# Altium footprint library Pcb_L136_0510.PcbLib: 8 footprints
Each footprint in its own frame and in the unit in brackets; x right, y up, seen from the top. Pads: shape width x height; smd on the part's side, far side on the other; paste and mask are expansions set on the pad; w line width, h text height; cw(c..) or ccw(c..) is an arc to the next point about the centre after c.
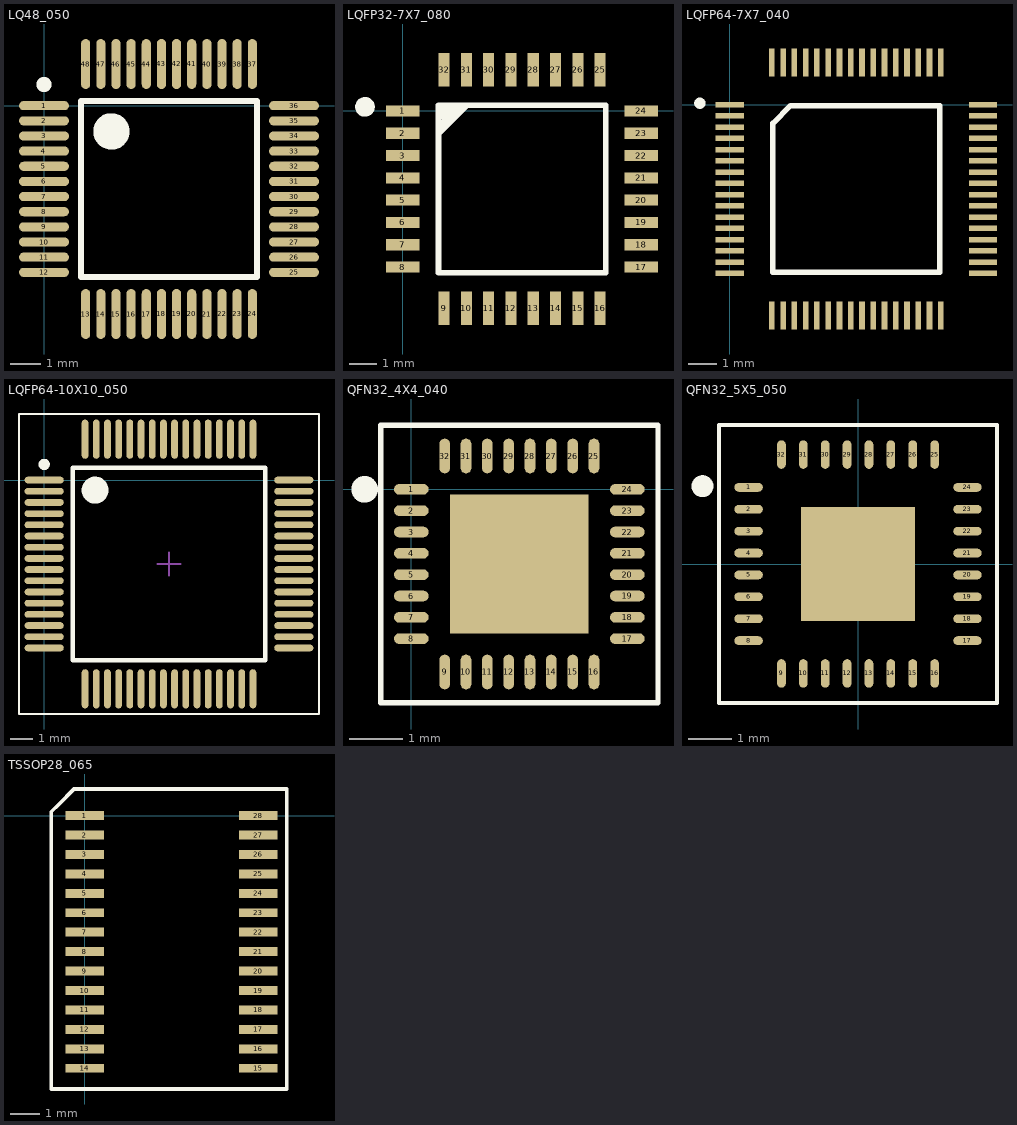
[diagram p0: the footprints below, top view; thin cyan lines are the x and y axes]

## LQ48_050 [mm]
pads (48):
  oval 1.65x0.3 smd: 1(0,0) 2(0,-0.5) 3(0,-1) 4(0,-1.5) 5(0,-2) 6(0,-2.5) 7(0,-3) 8(0,-3.5) 9(0,-4) 10(0,-4.5) 11(0,-5) 12(0,-5.5) 25(8.25,-5.5) 26(8.25,-5) 27(8.25,-4.5) 28(8.25,-4) 29(8.25,-3.5) 30(8.25,-3) 31(8.25,-2.5) 32(8.25,-2) 33(8.25,-1.5) 34(8.25,-1) 35(8.25,-0.5) 36(8.25,0)
  oval 0.3x1.65 smd: 13(1.375,-6.875) 14(1.875,-6.875) 15(2.375,-6.875) 16(2.875,-6.875) 17(3.375,-6.875) 18(3.875,-6.875) 19(4.375,-6.875) 20(4.875,-6.875) 21(5.375,-6.875) 22(5.875,-6.875) 23(6.375,-6.875) 24(6.875,-6.875) 37(6.875,1.375) 38(6.375,1.375) 39(5.875,1.375) 40(5.375,1.375) 41(4.875,1.375) 42(4.375,1.375) 43(3.875,1.375) 44(3.375,1.375) 45(2.875,1.375) 46(2.375,1.375) 47(1.875,1.375) 48(1.375,1.375)
Top Overlay:
  circle w0.25: c0,0.7 r0.125
  circle w0.6: c2.225,-0.85 r0.3
  lines w0.2: 1.225,-5.65 1.225,0.15 7.025,0.15 7.025,-5.65 1.225,-5.65

## LQFP32-7X7_080 [mm]
pads (32):
  rect 1.2x0.4 smd: 1(0,0) 2(0,-0.8) 3(0,-1.6) 4(0,-2.4) 5(0,-3.2) 6(0,-4) 7(0,-4.8) 8(0,-5.6) 17(8.55,-5.6) 18(8.55,-4.8) 19(8.55,-4) 20(8.55,-3.2) 21(8.55,-2.4) 22(8.55,-1.6) 23(8.55,-0.8) 24(8.55,0)
  rect 0.4x1.2 smd: 9(1.475,-7.075) 10(2.275,-7.075) 11(3.075,-7.075) 12(3.875,-7.075) 13(4.675,-7.075) 14(5.475,-7.075) 15(6.275,-7.075) 16(7.075,-7.075) 25(7.075,1.475) 26(6.275,1.475) 27(5.475,1.475) 28(4.675,1.475) 29(3.875,1.475) 30(3.075,1.475) 31(2.275,1.475) 32(1.475,1.475)
Top Overlay:
  circle w0.25: c-1.438,0.121 r0.125
  circle w0.2: c-1.361,0.146 r0.251
  lines w0.2: 1.275,-0.819 2.294,0.2 ; 1.275,-0.539 2.091,0.2 ; 1.275,-0.26 1.837,0.2 ; 1.275,-0.031 1.583,0.2 ; 1.275,-5.8 1.275,0.2 ; 1.275,-5.8 1.275,0.2 ; 1.275,-5.8 7.275,-5.8 7.275,0.2 1.275,0.2

## LQFP64-7X7_040 [mm]
pads (64):
  rect 1x0.2 smd: 1(0,0) 2(0,-0.4) 3(0,-0.8) 4(0,-1.2) 5(0,-1.6) 6(0,-2) 7(0,-2.4) 8(0,-2.8) 9(0,-3.2) 10(0,-3.6) 11(0,-4) 12(0,-4.4) 13(0,-4.8) 14(0,-5.2) 15(0,-5.6) 16(0,-6) 33(9,-6) 34(9,-5.6) 35(9,-5.2) 36(9,-4.8) 37(9,-4.4) 38(9,-4) 39(9,-3.6) 40(9,-3.2) 41(9,-2.8) 42(9,-2.4) 43(9,-2) 44(9,-1.6) 45(9,-1.2) 46(9,-0.8) 47(9,-0.4) 48(9,0)
  rect 0.2x1 smd: 17(1.5,-7.5) 18(1.9,-7.5) 19(2.3,-7.5) 20(2.7,-7.5) 21(3.1,-7.5) 22(3.5,-7.5) 23(3.9,-7.5) 24(4.3,-7.5) 25(4.7,-7.5) 26(5.1,-7.5) 27(5.5,-7.5) 28(5.9,-7.5) 29(6.3,-7.5) 30(6.7,-7.5) 31(7.1,-7.5) 32(7.5,-7.5) 49(7.5,1.5) 50(7.1,1.5) 51(6.7,1.5) 52(6.3,1.5) 53(5.9,1.5) 54(5.5,1.5) 55(5.1,1.5) 56(4.7,1.5) 57(4.3,1.5) 58(3.9,1.5) 59(3.5,1.5) 60(3.1,1.5) 61(2.7,1.5) 62(2.3,1.5) 63(1.9,1.5) 64(1.5,1.5)
Top Overlay:
  circle w0.2: c-1.063,0.048 r0.1
  lines w0.2: 1.535,-5.965 7.465,-5.965 7.465,-0.035 2.167,-0.035 1.535,-0.667 1.535,-5.965

## LQFP64-10X10_050 [mm]
pads (64):
  oval 1.75x0.3 smd: 1(0,0) 2(0,-0.5) 3(0,-1) 4(0,-1.5) 5(0,-2) 6(0,-2.5) 7(0,-3) 8(0,-3.5) 9(0,-4) 10(0,-4.5) 11(0,-5) 12(0,-5.5) 13(0,-6) 14(0,-6.5) 15(0,-7) 16(0,-7.5) 33(11.15,-7.5) 34(11.15,-7) 35(11.15,-6.5) 36(11.15,-6) 37(11.15,-5.5) 38(11.15,-5) 39(11.15,-4.5) 40(11.15,-4) 41(11.15,-3.5) 42(11.15,-3) 43(11.15,-2.5) 44(11.15,-2) 45(11.15,-1.5) 46(11.15,-1) 47(11.15,-0.5) 48(11.15,0)
  oval 0.3x1.75 smd: 17(1.825,-9.325) 18(2.325,-9.325) 19(2.825,-9.325) 20(3.325,-9.325) 21(3.825,-9.325) 22(4.325,-9.325) 23(4.825,-9.325) 24(5.325,-9.325) 25(5.825,-9.325) 26(6.325,-9.325) 27(6.825,-9.325) 28(7.325,-9.325) 29(7.825,-9.325) 30(8.325,-9.325) 31(8.825,-9.325) 32(9.325,-9.325) 49(9.325,1.825) 50(8.825,1.825) 51(8.325,1.825) 52(7.825,1.825) 53(7.325,1.825) 54(6.825,1.825) 55(6.325,1.825) 56(5.825,1.825) 57(5.325,1.825) 58(4.825,1.825) 59(4.325,1.825) 60(3.825,1.825) 61(3.325,1.825) 62(2.825,1.825) 63(2.325,1.825) 64(1.825,1.825)
Top Overlay:
  circle w0.6: c2.275,-0.45 r0.3
  circle w0.25: c0,0.7 r0.125
  lines w0.1: -1.125,-10.45 12.275,-10.45 12.275,2.95 -1.125,2.95 -1.125,-10.45
  lines w0.2: 1.275,-8.05 9.875,-8.05 9.875,0.55 1.275,0.55 1.275,-8.05
Mechanical 15:
  lines w0.1: 5.075,-3.75 6.075,-3.75 ; 5.575,-4.25 5.575,-3.25

## PCBComponent_1 [mm]

## QFN32_4X4_040 [mm]
pads (33):
  oval 0.65x0.2 smd: 1(0,0) 2(0,-0.4) 3(0,-0.8) 4(0,-1.2) 5(0,-1.6) 6(0,-2) 7(0,-2.4) 8(0,-2.8) 17(4.05,-2.8) 18(4.05,-2.4) 19(4.05,-2) 20(4.05,-1.6) 21(4.05,-1.2) 22(4.05,-0.8) 23(4.05,-0.4) 24(4.05,0)
  oval 0.2x0.65 smd: 9(0.625,-3.425) 10(1.025,-3.425) 11(1.425,-3.425) 12(1.825,-3.425) 13(2.225,-3.425) 14(2.625,-3.425) 15(3.025,-3.425) 16(3.425,-3.425) 25(3.425,0.625) 26(3.025,0.625) 27(2.625,0.625) 28(2.225,0.625) 29(1.825,0.625) 30(1.425,0.625) 31(1.025,0.625) 32(0.625,0.625)
  rect 2.6x2.6 smd: ""(2.025,-1.4)
Top Overlay:
  circle w0.25: c-0.875,0 r0.125
  lines w0.1: -0.575,-4 -0.575,1.2 4.625,1.2 4.625,-4 -0.575,-4

## QFN32_5X5_050 [mm]
pads (33):
  oval 0.65x0.2 smd: 1(-2.5,1.75) 2(-2.5,1.25) 3(-2.5,0.75) 4(-2.5,0.25) 5(-2.5,-0.25) 6(-2.5,-0.75) 7(-2.5,-1.25) 8(-2.5,-1.75) 17(2.5,-1.75) 18(2.5,-1.25) 19(2.5,-0.75) 20(2.5,-0.25) 21(2.5,0.25) 22(2.5,0.75) 23(2.5,1.25) 24(2.5,1.75)
  oval 0.2x0.65 smd: 9(-1.75,-2.5) 10(-1.25,-2.5) 11(-0.75,-2.5) 12(-0.25,-2.5) 13(0.25,-2.5) 14(0.75,-2.5) 15(1.25,-2.5) 16(1.75,-2.5) 25(1.75,2.5) 26(1.25,2.5) 27(0.75,2.5) 28(0.25,2.5) 29(-0.25,2.5) 30(-0.75,2.5) 31(-1.25,2.5) 32(-1.75,2.5)
  rect 2.6x2.6 smd: ""(0,0)
Top Overlay:
  circle w0.25: c-3.554,1.778 r0.125
  lines w0.1: -3.175,-3.175 -3.175,3.175 3.175,3.175 3.175,-3.175 -3.175,-3.175

## TSSOP28_065 [mm]
pads (28):
  rect 1.3x0.3 smd: 1(0,0) 2(0,-0.65) 3(0,-1.3) 4(0,-1.95) 5(0,-2.6) 6(0,-3.25) 7(0,-3.9) 8(0,-4.55) 9(0,-5.2) 10(0,-5.85) 11(0,-6.5) 12(0,-7.15) 13(0,-7.8) 14(0,-8.45) 15(5.8,-8.45) 16(5.8,-7.8) 17(5.8,-7.15) 18(5.8,-6.5) 19(5.8,-5.85) 20(5.8,-5.2) 21(5.8,-4.55) 22(5.8,-3.9) 23(5.8,-3.25) 24(5.8,-2.6) 25(5.8,-1.95) 26(5.8,-1.3) 27(5.8,-0.65) 28(5.8,0)
Top Overlay:
  lines w0.127: -1.12,-9.144 -1.12,0.127 -0.866,0.381 -0.358,0.889 6.754,0.889 6.754,0.635 6.754,-9.144 -1.12,-9.144